# EAGLE library part AS-ITM-00042 (library tinycircuits)
IC PWM MOTR DVR H-BRDG 8WSON
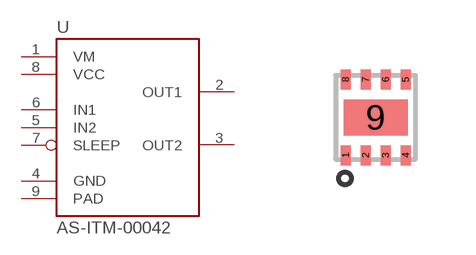
[diagram p13: symbol with the pads of WSON-8; footprint WSON-8]

Designator prefix U

## AS-ITM-00042 (PARTNO: AS-ITM-00042; VALUE: DRV8837)  [WSON-8]
1  VM
2  OUT1
3  OUT2
4  GND  pwr
5  IN2  pwr
6  IN1  pwr
7  SLEEP
8  VCC
9  PAD  pwr

## Footprint WSON-8 (pad centres in mm)
smd 0.25 x 0.5: 1 -0.75,-0.95; 2 -0.25,-0.95; 3 0.25,-0.95; 4 0.75,-0.95; 5 0.75,0.95; 6 0.25,0.95; 7 -0.25,0.95; 8 -0.75,0.95
smd 1.6 x 0.9: 9 0,0